# Altium schematic symbol library PCB_Project_MachCamBienMQ3.SCHLIB: 21 symbols
Pins are listed as number, name and electrical type; pins without a type are passive.

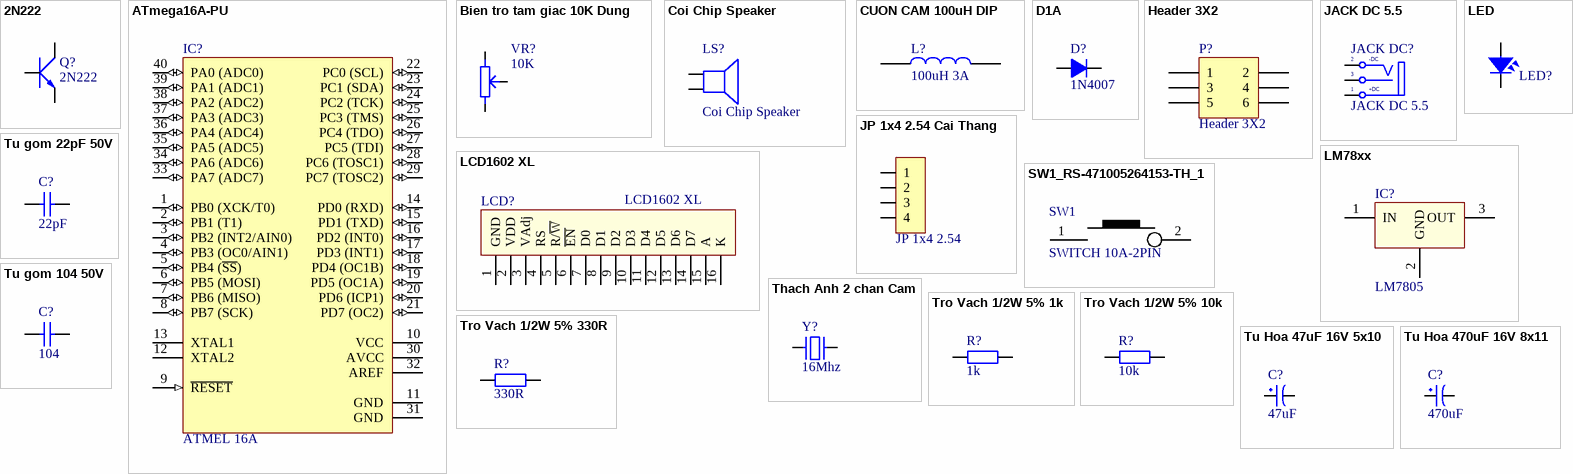
[diagram p0: symbols 2N222 to Tu Hoa 470uF 16V 8x11]

## 2N222
designator Q?
NPN 600mW, ECB; Value: C1815
footprint TO92-123 (TO-92)
footprint SOT23-231
footprint TO92-123 - 1 (TO-92)
footprint TO92-123 - 2 (TO-92)
footprint TO92-123 - 3 (TO-92)
pins: 1 E, 2 B, 3 C

## ATmega16A-PU
designator IC?, comment ATMEL 16A
8-Bit AVR Microcontroller with 16K Bytes of In-System Programmable Flash Memory; Value: Atmega 16L
footprint DIP40/W0.6 (40 PIN, W 600mil, Pin to pin 100mil)
pins: 1 PB0 (XCK/T0) (io), 2 PB1 (T1) (io), 3 PB2 (INT2/AIN0) (io), 4 PB3 (OC0/AIN1) (io), 5 PB4 (~{SS}) (io), 6 PB5 (MOSI) (io), 7 PB6 (MISO) (io), 8 PB7 (SCK) (io), 9 ~{RESET} (in), 10 VCC (power), 11 GND (power), 12 XTAL2, 13 XTAL1, 14 PD0 (RXD) (io), 15 PD1 (TXD) (io), 16 PD2 (INT0) (io), 17 PD3 (INT1) (io), 18 PD4 (OC1B) (io), 19 PD5 (OC1A) (io), 20 PD6 (ICP1) (io), 21 PD7 (OC2) (io), 22 PC0 (SCL) (io), 23 PC1 (SDA) (io), 24 PC2 (TCK) (io), 25 PC3 (TMS) (io), 26 PC4 (TDO) (io), 27 PC5 (TDI) (io), 28 PC6 (TOSC1) (io), 29 PC7 (TOSC2) (io), 30 AVCC (power), 31 GND (power), 32 AREF (power), 33 PA7 (ADC7) (io), 34 PA6 (ADC6) (io), 35 PA5 (ADC5) (io), 36 PA4 (ADC4) (io), 37 PA3 (ADC3) (io), 38 PA2 (ADC2) (io), 39 PA1 (ADC1) (io), 40 PA0 (ADC0) (io)

## Bien tro tam giac 10K Dung
designator VR?, comment 10K
Cắm; Ma_Hang: MH000919; Don_Vi: Con; Ten_Linh_Kien: Biến Trở Tam Giác 103-10K RM065 (Chân Đứng); Chung_Loai: Cắm; Kieu_Chan: *
footprint Bien Tro Tam Giac Dung (RM065)
pins: 1, 2, 3

## Coi Chip Speaker
designator LS?
Còi chip
footprint Coi Chip Speacker
pins: 1, 2

## CUON CAM 100uH DIP
designator L?, comment 100uH 3A
Dán; Don_Vi: Con; Ma_Hang: MH002209; Ten_Linh_Kien: Cuộn Cảm 100uH 3A 8x10MM; Chung_Loai: Dán; Ghi Chu: *; Kieu Chan: *
footprint CUON CAM 100uH3A (100uH3A)
pins: 1, 2

## D1A
designator D?, comment 1N4007
Diode 1A; Value: 1N4007
footprint D1A (Diode 1A, W 100mil, L 350mil)
footprint D2A (Diode 2A, W 150mil, L 450mil)
pins: 1 A, 2 K

## Header 3X2
designator P?
Header, 3-Pin, Dual row; LatestRevisionDate: 17-Jul-2002; LatestRevisionNote: Re-released for DXP Platform.; Publisher: Altium Limited
footprint HDR2X3 (Connector; Header; 3x2 Position)
signal-integrity model Connector
pins: 1, 2, 3, 4, 5, 6

## JACK DC 5.5
designator JACK DC?
Value: Jac DC
footprint JACK DC 5.5 (Jac DC input)
pins: 1 T "Tip", 2 TN "Tip Normal (Break Contact)", 3 S (power) "Sleeve (Ground)"
text: -DC; +DC

## JP 1x4 2.54 Cai Thang
designator JP?, comment JP 1x4 2.54
Cắm; Ten_Linh_Kien: Jump Đơn Cái 2.54MM 1x20P Thẳng; Don_Vi: Con; Ma_Hang: MH004006; Ghi_Chu: *; Kieu_Chan: *; Chung_Loai: Cắm
footprint JP 1x4 CT
pins: 1, 2, 3, 4

## LCD1602 XL
designator LCD?
LCD 1602 Xanh Lá; Ten: Màn hình LCD 1602 Xanh Lá; Ma_Hang: 67HZ; NCC: NSHOP; CHIP: HD44780
footprint LCD1602 with Jump (LCD dipslay 16x2, 16 pin)
footprint LCD1602 (LCD dipslay 16x2, 16 pin)
pins: 1 GND, 2 VDD, 3 VAdj, 4 RS, 5 R/~{W}, 6 ~{EN}, 7 D0, 8 D1, 9 D2, 10 D3, 11 D4, 12 D5, 13 D6, 14 D7, 15 A, 16 K

## LED
designator LED?  (value not drawn)
LED Single colour Green and Red; Value: LED 3 ly Single Colour
footprint LED-5-BLUE (LED 2 PIN, 5 ly , Only colour, pin to pin 110mil)
footprint LED-5-Green (LED 2 PIN, 5 ly , Only colour,pin to pin 100mil)
footprint LED-5-RED (LED 2 PIN, 5 ly , Only colour,pin to pin 100mil)
footprint LED-5-WHITE (LED 2 PIN, 5 ly , Only colour, pin to pin 110mil)
footprint LED-5-Yellow (LED 2 PIN, 5 ly , Only colour,pin to pin 100mil)
footprint LED-3MM-YELLOW
footprint LED-3MM-RED
footprint LED-3MM-GREEN
footprint LED-3MM-BLUE
footprint LED-5MM-BLUE
footprint LED-5MM-GREEN
footprint LED-5MM-ORANGE
footprint LED-5MM-RED
footprint LED-5MM-WHITE
footprint LED-5MM-YELLOW
footprint LED-3MM-WHITE (LED 2 PIN, 3ly Only colour)
pins: 1, 2

## LM78xx
designator IC?, comment LM7805
On ap +, from + 5 to + 24VDC; Value: LM7805
footprint QTO-220 (TO-220 - 1-2-3)
footprint QTO-220H3 (TO-220 1-2-3)
footprint QTO-220NH (TO-220 - 1-2-3)
pins: 1 IN, 2 GND, 3 OUT

## SW1_RS-471005264153-TH_1
designator SW1, comment SWITCH 10A-2PIN
Rocker Switch SPST 16A (AC), 10A (DC) 250V Panel Mount, Snap-In; Manufacturer: Würth Elektronik; Manufacturer Part Number: 471005264153; Alternate Part Number-1: NA; Case/Package: TH; Supplier-1: Würth Elektronik; Supplier Part Number-1: 471005264153
footprint SW_2ARS_TH
pins: 1, 2

## Thach Anh 2 chan Cam
designator Y?, comment 16Mhz
Crystal For all Crystal 2pin.; Value: 4Mhz
footprint Thach Anh 2 chan cam
pins: 1, 2

## Tro Vach 1/2W 5% 1k
designator R?, comment 1k
Cắm; Don_Vi: Con; So_Chan: 2; Ten_Linh_Kien: Trở 5% 1/2w 1K; Ma_Hang: MH007240; Chung_Loai: Cắm; Kieu_Chan: *
footprint tro vach 1/2w
pins: 1, 2

## Tro Vach 1/2W 5% 10k
designator R?, comment 10k
Cắm; Don_Vi: Con; So_Chan: 2; Ten_Linh_Kien: Trở 5% 1/2w 10k; Ma_Hang: MH006206; Chung_Loai: Cắm; Kieu_Chan: *
footprint tro vach 1/2w
pins: 1, 2

## Tro Vach 1/2W 5% 330R
designator R?, comment 330R
Cắm; Don_Vi: Con; So_Chan: 2; Ten_Linh_Kien: Trở 5% 1/2w 330R; Ma_Hang: MH006204; Chung_Loai: Cắm; Kieu_Chan: *
footprint tro vach 1/2w
pins: 1, 2

## Tu gom 22pF 50V
designator C?, comment 22pF
Cắm; Don_Vi: Con; So_Chan: 2; Ten_Linh_Kien: Tụ gốm 22P 50V; Ma_Hang: MH004771; Chung_Loai: Cắm; Kieu_Chan: *
footprint tu gom (Tu gom mini)
pins: 1, 2

## Tu gom 104 50V
designator C?, comment 104
Cắm; So_Chan: 2; Ten_Linh_Kien: Tụ gốm 104 100nF 50V; Don_Vi: Con; Ma_Hang: MH004761; Chung_Loai: Cắm; Kieu_Chan: *
footprint tu gom (Tu gom mini)
pins: 1, 2

## Tu Hoa 47uF 16V 5x10
designator C?, comment 47uF
Cắm; Don_Vi: Con; So_Chan: 2; Ten_Linh_Kien: Tụ Hóa 47uF 16V; Ma_Hang: MH006859; Chung_Loai: Cắm; Kieu_Chan: *
footprint tu hoa 5mm
pins: 1, 2

## Tu Hoa 470uF 16V 8x11
designator C?, comment 470uF
Cắm; Don_Vi: Con; So_Chan: 2; Ten_Linh_Kien: Tụ Hóa 470uF 16V 8x11MM; Ma_Hang: MH006550; Chung_Loai: Cắm; Kieu_Chan: *
footprint tu hoa 8mm
pins: 1, 2